# EAGLE library part TUSB2046 (library Bauteile)
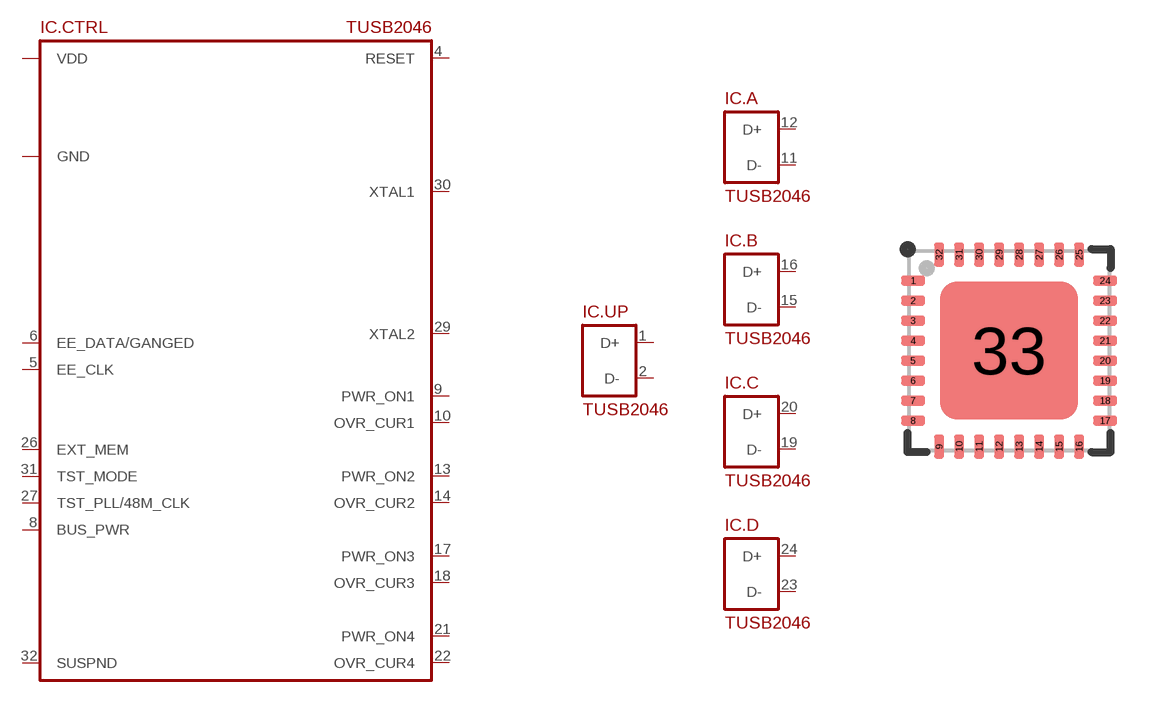
[diagram p220: symbol with the pads of VQFN32-0.5; footprint VQFN32-0.5]

Designator prefix IC; gates .CTRL=TUSB2046 .UP=USB_2.0_PORT .A=USB_2.0_PORT .B=USB_2.0_PORT .C=USB_2.0_PORT .D=USB_2.0_PORT

## TUSB2046  [VQFN32-0.5]
1  .UP:D+
2  .UP:D-
3  .CTRL:VDD
4  .CTRL:RESET
5  .CTRL:EE_CLK
6  .CTRL:EE_DATA/GANGED
7  .CTRL:GND
8  .CTRL:BUS_PWR
9  .CTRL:PWR_ON1
10  .CTRL:OVR_CUR1
11  .A:D-
12  .A:D+
13  .CTRL:PWR_ON2
14  .CTRL:OVR_CUR2
15  .B:D-
16  .B:D+
17  .CTRL:PWR_ON3
18  .CTRL:OVR_CUR3
19  .C:D-
20  .C:D+
21  .CTRL:PWR_ON4
22  .CTRL:OVR_CUR4
23  .D:D-
24  .D:D+
25  .CTRL:VDD
26  .CTRL:EXT_MEM
27  .CTRL:TST_PLL/48M_CLK
28  .CTRL:GND
29  .CTRL:XTAL2
30  .CTRL:XTAL1
31  .CTRL:TST_MODE
32  .CTRL:SUSPND

## Footprint VQFN32-0.5 (pad centres in mm)
smd 0.6 x 0.25: 1 -2.4,1.75; 2 -2.4,1.25; 3 -2.4,0.75; 4 -2.4,0.25; 5 -2.4,-0.25; 6 -2.4,-0.75; 7 -2.4,-1.25; 8 -2.4,-1.75; 17 2.4,-1.75; 18 2.4,-1.25; 19 2.4,-0.75; 20 2.4,-0.25; 21 2.4,0.25; 22 2.4,0.75; 23 2.4,1.25; 24 2.4,1.75
smd 0.25 x 0.6: 9 -1.75,-2.4; 10 -1.25,-2.4; 11 -0.75,-2.4; 12 -0.25,-2.4; 13 0.25,-2.4; 14 0.75,-2.4; 15 1.25,-2.4; 16 1.75,-2.4; 25 1.75,2.4; 26 1.25,2.4; 27 0.75,2.4; 28 0.25,2.4; 29 -0.25,2.4; 30 -0.75,2.4; 31 -1.25,2.4; 32 -1.75,2.4
smd 3.45 x 3.45: 33 0,0